# EAGLE library part METER_BASE (library Labops_Lib_AH)
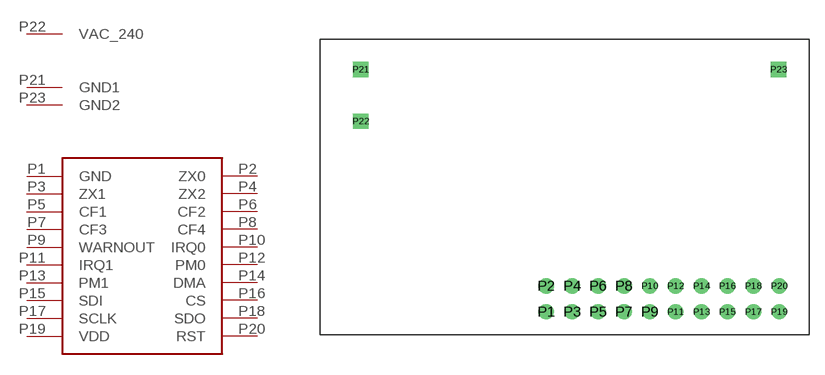
[diagram p41: symbol with the pads of METER_BASE; footprint METER_BASE]

Designator prefix -

## METER_BASE  [METER_BASE]
P1  GND
P2  ZX0
P3  ZX1
P4  ZX2
P5  CF1
P6  CF2
P7  CF3
P8  CF4
P9  WARNOUT
P10  IRQ0
P11  IRQ1
P12  PM0
P13  PM1
P14  DMA
P15  SDI
P16  CS
P17  SCLK
P18  SDO
P19  VDD
P20  RST
P21  GND1
P22  VAC_240
P23  GND2

## Footprint METER_BASE (pad centres in mm)
drill 1: P1 22.2,2.276; P2 22.2,4.816; P3 24.74,2.276; P4 24.74,4.816; P5 27.28,2.276; P6 27.28,4.816; P7 29.82,2.276; P8 29.82,4.816; P9 32.36,2.276; P10 32.36,4.816; P11 34.9,2.276; P12 34.9,4.816; P13 37.44,2.276; P14 37.44,4.816; P15 39.98,2.276; P16 39.98,4.816; P17 42.52,2.276; P18 42.52,4.816; P19 45.06,2.276; P20 45.06,4.816
drill 1 square: P21 4,26.046; P22 4,20.966; P23 45,26.046